# EAGLE library part MC1496 (library _motovilo)
Balanced Modulators /Demodulators
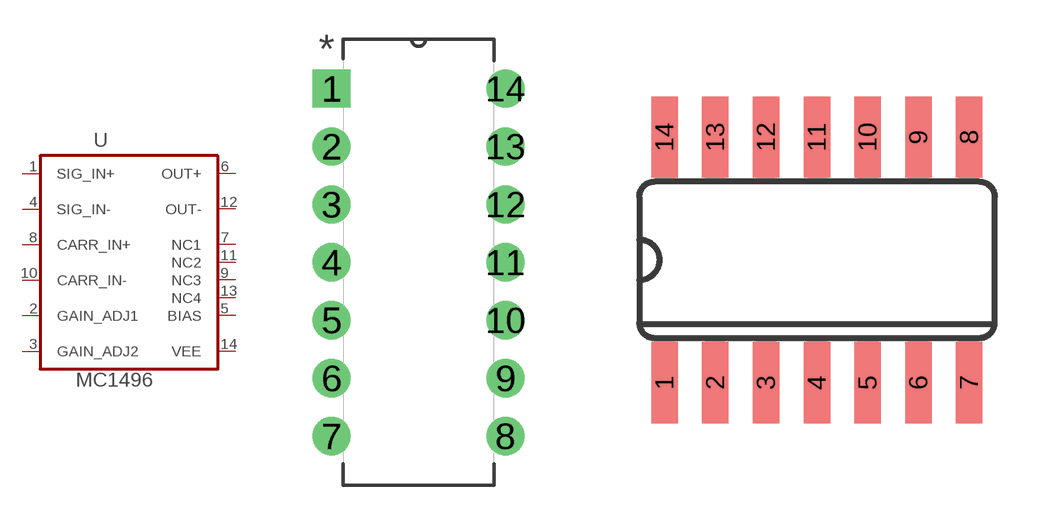
[diagram p17: symbol with the pads of DIP254P762X469-14; footprints DIP254P762X469-14, SO14]

Designator prefix U

## MC1496 (MPN: MC1496; SUPPLIER: ON SEMICONDUCTOR)  [DIP254P762X469-14]
1  SIG_IN+  in
2  GAIN_ADJ1
3  GAIN_ADJ2
4  SIG_IN-  in
5  BIAS  pas
6  OUT+  out
7  NC1  nc
8  CARR_IN+  in
9  NC3  in
10  CARR_IN-  in
11  NC2  nc
12  OUT-  out
13  NC4  nc
14  VEE  pwr

## MC1496BDG  [SO14]
1  SIG_IN+  in
2  GAIN_ADJ1
3  GAIN_ADJ2
4  SIG_IN-  in
5  BIAS  pas
6  OUT+  out
7  NC1  nc
8  CARR_IN+  in
9  NC2  nc
10  CARR_IN-  in
11  NC3  in
12  OUT-  out
13  NC4  nc
14  VEE  pwr

## Footprint DIP254P762X469-14 (pad centres in mm)
drill 1.118 square: 1 -7.62,15.24
drill 1.118: 2 -7.62,12.7; 3 -7.62,10.16; 4 -7.62,7.62; 5 -7.62,5.08; 6 -7.62,2.54; 7 -7.62,0; 8 0,0; 9 0,2.54; 10 0,5.08; 11 0,7.62; 12 0,10.16; 13 0,12.7; 14 0,15.24

## Footprint SO14 (pad centres in mm)
Small Outline package 150 mil
smd 0.66 x 2.032: 1 -3.81,-3.073; 2 -2.54,-3.073; 3 -1.27,-3.073; 4 0,-3.073; 5 1.27,-3.073; 6 2.54,-3.073; 7 3.81,-3.073; 8 3.81,3.073; 9 2.54,3.073; 10 1.27,3.073; 11 0,3.073; 12 -1.27,3.073; 13 -2.54,3.073; 14 -3.81,3.073